# EAGLE library part FLASH_SST25VF080B (library DSP_PID)
8 Mbit SPI Serial Flash
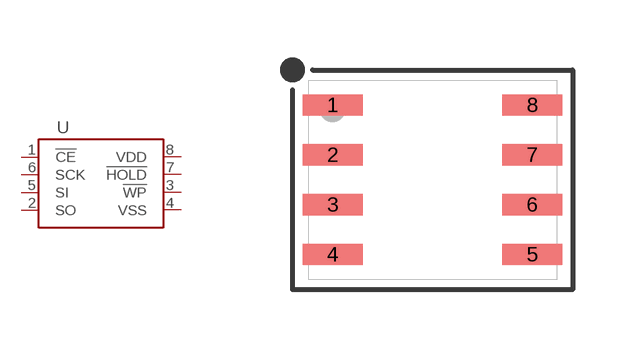
[diagram p1: symbol with the pads of SOIC-8; footprint SOIC-8]

Designator prefix U

## FLASH_SST25VF080B (MFG: MICROCHIP; MPN: SST25VF080B-50-4C-S2AF-T; PRICE: 1.83; VENDOR: DIGIKEY; VPN: SST25VF080B-50-4C-S2AF-T-ND)  [SOIC-8]
1  !CE  pas
2  SO  pas
3  !WP  pas
4  VSS  pas
5  SI  pas
6  SCK  pas
7  !HOLD  pas
8  VDD  pas

## Footprint SOIC-8 (pad centres in mm)
smd 1.5 x 0.53: 1 -2.494,1.871; 2 -2.494,0.624; 3 -2.494,-0.624; 4 -2.494,-1.871; 5 2.494,-1.871; 6 2.494,-0.624; 7 2.494,0.624; 8 2.494,1.871